# Altium footprint library MF_SLOT_ESC_V2.0.PcbLib: 24 footprints (part 2 of 2)
Each footprint in its own frame and in the unit in brackets; x right, y up, seen from the top. Pads: shape width x height; smd on the part's side, far side on the other; paste and mask are expansions set on the pad; w line width, h text height; cw(c..) or ccw(c..) is an arc to the next point about the centre after c.
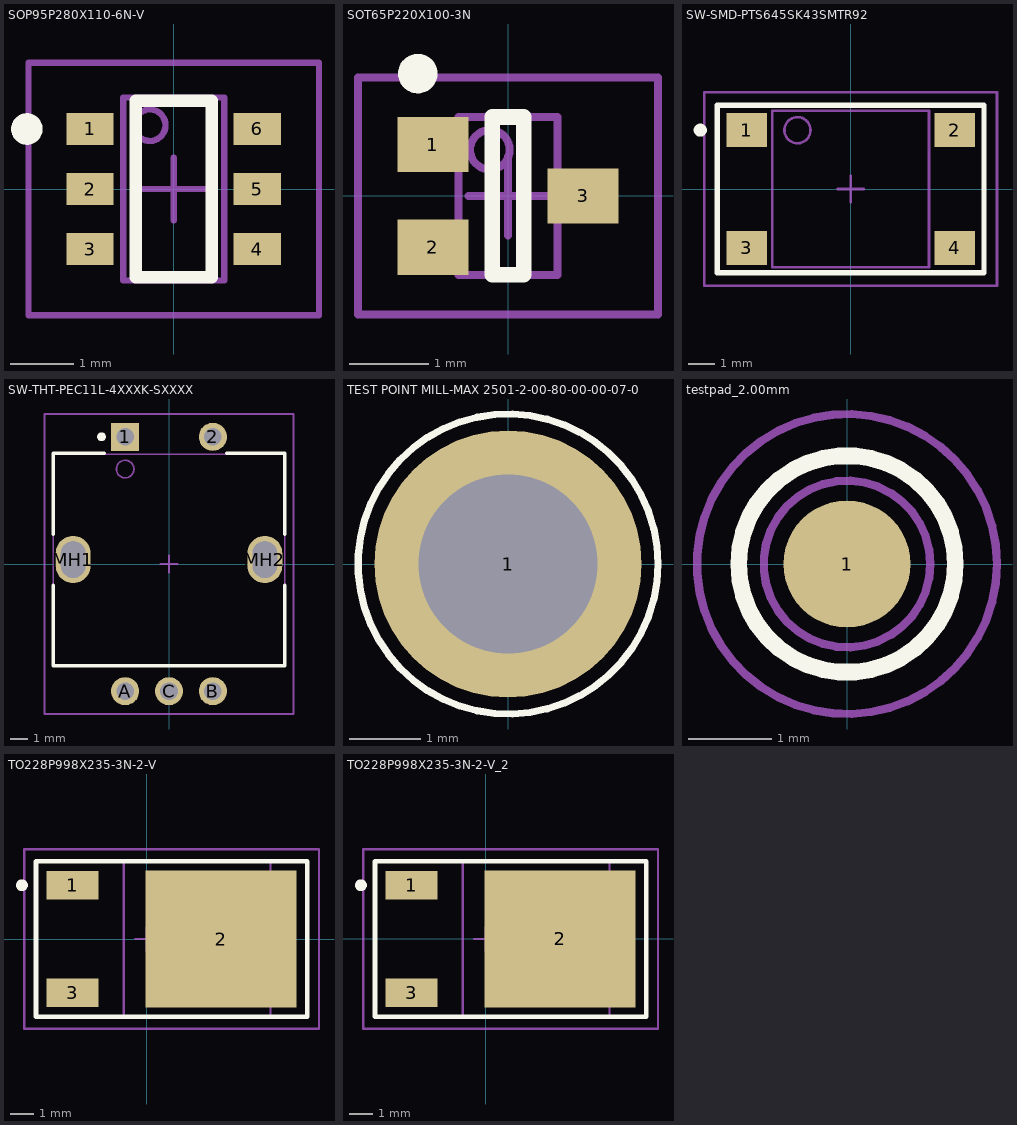
[diagram p1: the footprints below, top view; thin cyan lines are the x and y axes]

## SOP95P280X110-6N-V [mm] "SOP,0.95mm pitch;6 pin,1.60mm W X 2.90mm L X 1.10mm H body"
height 1.1
pads (6):
  rect 0.75x0.5 smd paste+0 mask+0.051: 1(-1.325,0.95) 2(-1.325,0) 3(-1.325,-0.95) 4(1.325,-0.95) 5(1.325,0) 6(1.325,0.95)
Top Overlay:
  circle w0.25: c-2.325,0.95 r0.125
  lines w0.2: -0.6,-1.4 0.6,-1.4 0.6,1.4 -0.6,1.4 -0.6,-1.4
Mechanical 3:
  text ".DESIGNATOR" at 0,0 h1.2
Mechanical 13:
  circle w0.1: c-0.38,1.01 r0.25
  lines w0.1: -0.8,-1.45 0.8,-1.45 0.8,1.45 -0.8,1.45 -0.8,-1.45
Mechanical 15:
  lines w0.1: -0.5,0 0.5,0 ; 0,-0.5 0,0.5 ; -2.3,-2 -2.3,2 2.3,2 2.3,-2 -2.3,-2
3D body "PG-TSOP6-6-9_Z8B00183695_V03_3D.stp": height 1.11, standoff 0, extent -1.4,-1.45 1.4,1.45

## SOT65P220X100-3N [mm] "SOT,0.65mm,pitch;3 pin,1.25mm W X 2.00mm L X 1.00mm H body"
height 1
pads (3):
  rect 0.9x0.7 smd paste+0 mask+0.051: 1(-0.95,0.65) 2(-0.95,-0.65) 3(0.95,0)
Top Overlay:
  circle w0.25: c-1.143,1.55 r0.125
  lines w0.2: -0.2,-1 -0.2,1 0.2,1 0.2,-1 -0.2,-1
Mechanical 3:
  text ".DESIGNATOR" at 0,0 h1.2
Mechanical 13:
  circle w0.1: c-0.229,0.584 r0.25
  lines w0.1: -0.625,-1 -0.625,1 0.625,1 0.625,-1 -0.625,-1
Mechanical 15:
  lines w0.1: -0.5,0 0.5,0 ; 0,-0.5 0,0.5 ; -1.9,-1.5 -1.9,1.5 1.9,1.5 1.9,-1.5 -1.9,-1.5
3D body "SOT323_1.25X2X1.STEP": height 1, standoff 0, extent -1.05,-1.05 1.05,1.05

## SW-SMD-PTS645SK43SMTR92 [mm] "Switch, SMD, 4 pin, 6.00 mm L X 6.00 mm W X 4.40 mm H body"
height 4.4
pads (4):
  rect 1.55x1.3 smd paste+0 mask+0.051: 1(-3.975,2.25) 2(3.975,2.25) 3(-3.975,-2.25) 4(3.975,-2.25)
Top Overlay:
  circle w0.25: c-5.75,2.25 r0.125
  lines w0.2: -5.1,-3.2 -5.1,3.2 5.1,3.2 5.1,-3.2 -5.1,-3.2
Mechanical 3:
  text ".DESIGNATOR" at 0,0 h1.2
Mechanical 13:
  circle w0.1: c-2.032,2.25 r0.5
  lines w0.1: -3,-3 3,-3 3,3 -3,3 -3,-3
Mechanical 15:
  lines w0.1: -0.5,0 0.5,0 ; 0,-0.5 0,0.5 ; -5.6,-3.7 5.6,-3.7 5.6,3.7 -5.6,3.7 -5.6,-3.7
3D body "PTS645SK43SMTR92LFS.stp": height 4.3, standoff 0, extent -4.5,-3 4.5,3

## SW-THT-PEC11L-4XXXK-SXXXX [mm] "Switch, THT, 2.50 mm Pitch, 5 Pins, 13.20 mm L X 12.00 mm W X 25.0 mm H body"
height 25
pads (7):
  rect 1.6x1.6 hole 1 paste+0 mask+0.051: 1(-2.5,7.25)
  round 1.6 hole 1 paste+0 mask+0.051: 2(2.5,7.25) A(-2.5,-7.25) B(2.5,-7.25) C(0,-7.25)
  oval 2x2.7 hole 1.4 slot 2.1 at 90 deg paste+0 mask+0.051: MH1(-5.461,0.254) MH2(5.461,0.254)
Top Overlay:
  circle w0.25: c-3.85,7.25 r0.125
  lines w0.2: -6.6,-1.2 -6.6,-5.8 6.6,-5.8 6.6,-1.2 ; -6.6,1.7 -6.6,6.3 -3.7,6.3 ; 3.3,6.3 6.6,6.3 6.6,1.7
Mechanical 3:
  text ".DESIGNATOR" at 0,0 h1.2
Mechanical 13:
  circle w0.1: c-2.5,5.411 r0.5
  lines w0.1: -6.6,-5.75 6.6,-5.75 6.6,6.25 -6.6,6.25 -6.6,-5.75
Mechanical 15:
  lines w0.1: -0.5,0 0.5,0 ; 0,-0.5 0,0.5 ; -7.1,-8.55 -7.1,8.55 7.1,8.55 7.1,-8.55 -7.1,-8.55
3D body "pec11l-4x20f-sxxxx.stp": height 24.6, standoff -4.41, extent -6.919,-7.375 6.919,7.325

## TEST POINT MILL-MAX 2501-2-00-80-00-00-07-0 [mm]
pads (1):
  round 3.74 hole 2.5 mask+0.051: 1(0,0)
Top Overlay:
  circle w0.1: c0,0 r2.1
Mechanical 2:
  circle w0.025: c0,0 r1.6
  circle w0.1: c0,0 r1.6
3D body "MILL MAX 2501-2-00-80-00-00-07-0.STEP": height 5.58, standoff -2.76, extent -1.587,-1.587 1.588,1.588

## testpad_2.00mm [mil] "Test Pad SMD 2.00mm"
height 316.93
pads (1):
  round 60 smd paste+0 mask+2: 1(0,0)
Top Overlay:
  circle w7.87: c0,0 r51.18
Mechanical 3:
  text ".DESIGNATOR" at -143.43,-15.16 h47.24
Mechanical 13:
  circle w3.94: c0,0 r39.37
Mechanical 15:
  circle w3.94: c0,0 r70.87
  lines w3.94: -19.68,0 19.68,0 ; 0,-19.69 0,19.68

## TO228P998X235-3N-2-V [mm] "TO,2.28mm pitch;2 pin,9.98mm L X 6.12mm W X 2.35mm H body"
height 2.35
pads (3):
  rect 2.2x1.2 smd paste+0 mask+0.051: 1(-3.15,2.28) 3(-3.15,-2.28)
  rect 6.4x5.8 smd paste+0 mask+0.051: 2(3.15,0)
Top Overlay:
  circle w0.25: c-5.3,2.28 r0.125
  lines w0.2: -4.7,-3.3 6.8,-3.3 6.8,3.3 -4.7,3.3 -4.7,-3.3
Mechanical 3:
  text ".DESIGNATOR" at 0,0 h1.2
Mechanical 13:
  lines w0.1: -0.98,-3.275 5.24,-3.275 5.24,3.275 -0.98,3.275 -0.98,-3.275
Mechanical 15:
  lines w0.1: -0.5,0 0.5,0 ; 0,-0.5 0,0.5 ; -5.2,-3.8 -5.2,3.8 7.3,3.8 7.3,-3.8 -5.2,-3.8
3D body "TO252-3-11.stp": height 2.36, standoff 0, extent -3.94,-3.25 6.04,3.25

## TO228P998X235-3N-2-V_2 [mm]
pads (3):
  rect 2.2x1.2 smd paste+0 mask+0.051: 1(-3.15,2.28) 3(-3.15,-2.28)
  rect 6.4x5.8 smd paste+0 mask+0.051: 2(3.15,0)
Top Overlay:
  circle w0.25: c-5.3,2.28 r0.125
  lines w0.2: -4.7,-3.3 6.8,-3.3 6.8,3.3 -4.7,3.3 -4.7,-3.3
Mechanical 3:
  text ".DESIGNATOR" at 0,0 h1.2
Mechanical 13:
  lines w0.1: -0.98,-3.275 5.24,-3.275 5.24,3.275 -0.98,3.275 -0.98,-3.275
Mechanical 15:
  lines w0.1: -0.5,0 0.5,0 ; 0,-0.5 0,0.5 ; -5.2,-3.8 -5.2,3.8 7.3,3.8 7.3,-3.8 -5.2,-3.8
3D body "TO252-3-11.stp": height 2.36, standoff 0, extent -3.94,-3.25 6.04,3.25